# Altium footprint library AeroXo_Components.PcbLib: 13 footprints
Each footprint in its own frame and in the unit in brackets; x right, y up, seen from the top. Pads: shape width x height; smd on the part's side, far side on the other; paste and mask are expansions set on the pad; w line width, h text height; cw(c..) or ccw(c..) is an arc to the next point about the centre after c.
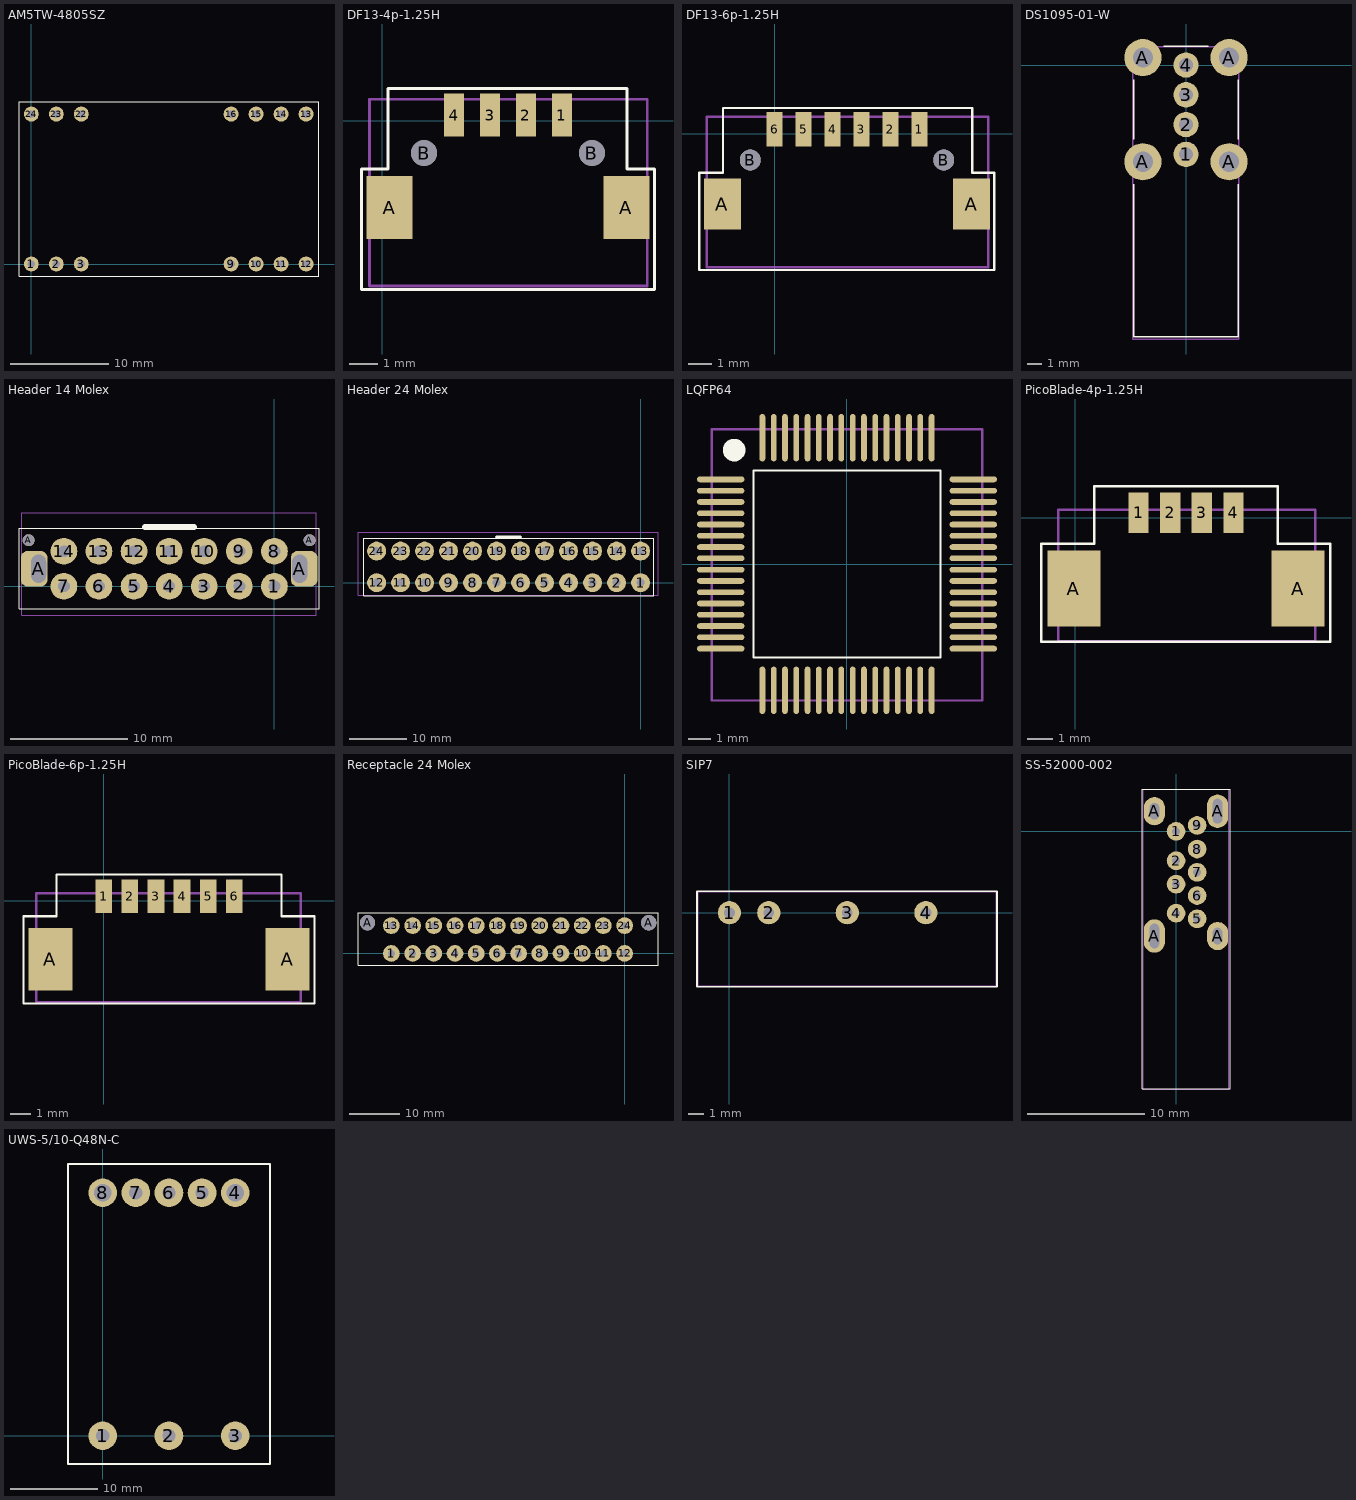
[diagram p0: the footprints below, top view; thin cyan lines are the x and y axes]

## AM5TW-4805SZ [mil]
pads (14):
  round 60 hole 30: 1(0,0) 2(100,0) 3(200,0) 9(800,0) 10(900,0) 11(1000,0) 12(1100,0) 13(1100,600) 14(1000,600) 15(900,600) 16(800,600) 22(200,600) 23(100,600) 24(0,600)
Top Overlay:
  lines w4: -49.21,-49.21 1151.57,-49.21 1151.57,649.61 -49.21,649.61 -49.21,-49.21

## DF13-4p-1.25H [mm]
pads (8):
  rect 0.7x1.5 smd: 1(6.25,0.2) 2(5,0.2) 3(3.75,0.2) 4(2.5,0.2)
  rect 1.6x2.2 smd: A(0.25,-3.025) A(8.5,-3.025)
  round 0.9 hole 0.9: B(1.45,-1.125) B(7.3,-1.125)
Top Overlay:
  lines w0.1: 8.525,-5.875 9.475,-5.875 9.475,-1.675 8.525,-1.675 8.525,1.125 0.2,1.125 0.2,-1.675 -0.725,-1.675 -0.725,-5.875 8.775,-5.875
Mechanical 13:
  lines w0.1: -0.45,-5.75 9.225,-5.75 9.225,0.75 -0.45,0.75 -0.45,-5.75
3D body "DF13-4P-1.25H.stp": height 3.83, standoff -0.57, extent -0.45,-5.725 9.2,0.775

## DF13-6p-1.25H [mm]
pads (10):
  rect 0.7x1.5 smd: 1(6.25,0.2) 2(5,0.2) 3(3.75,0.2) 4(2.5,0.2) 5(1.25,0.2) 6(0,0.2)
  rect 1.6x2.2 smd: A(-2.25,-3.025) A(8.5,-3.025)
  round 0.9 hole 0.9: B(-1.05,-1.125) B(7.3,-1.125)
Top Overlay:
  lines w0.1: -3.25,-5.875 -3.25,-1.675 -2.225,-1.675 -2.225,1.125 8.525,1.125 8.525,-1.675 9.475,-1.675 9.475,-5.875 8.525,-5.875 -2.225,-5.875 -3.25,-5.875
Mechanical 13:
  lines w0.1: -2.925,-5.75 9.225,-5.75 9.225,0.75 -2.925,0.75 -2.925,-5.75
3D body "DF13-6P-1.25H.stp": height 3.58, standoff -0.82, extent -2.925,-5.75 9.225,0.75

## DS1095-01-W [mm]
pads (8):
  round 1.7 hole 0.92: 1(0,-6) 2(0,-4) 3(0,-2) 4(0,0)
  round 2.5 hole 1.35: A(-2.9,-6.5) A(-2.9,0.5) A(2.9,-6.5) A(2.9,0.5)
Top Overlay:
  lines w0.1: -3.5,-8 -3.5,-18.25 3.5,-18.25 3.5,-8 ; -3.5,-5 -3.5,-1 ; -1.5,1.25 1.5,1.25 ; 3.5,-5 3.5,-1
Mechanical 13:
  lines w0.1: -3.581,-18.415 -3.581,1.245 3.543,1.245 3.543,-18.415 -3.581,-18.415
3D body "39m4083_292336-1.stp": height 14.87, standoff -3.24, extent -3.581,-18.415 3.543,1.245

## Header 14 Molex [mil]
pads (18):
  round 90 hole 40: 1(0,0) 2(-118,0) 3(-236,0) 4(-354,0) 5(-472,0) 6(-590,0) 7(-708,0) 8(0,118) 9(-118,118) 10(-236,118) 11(-354,118) 12(-472,118) 13(-590,118) 14(-708,118)
  round 40 hole 40: A(-826.5,155) A(118.5,155)
  rrect50% 90x120 hole 95 slot 50 at 0 deg copper offset -15,0: A(-793,59)
  rrect50% 90x120 hole 95 slot 50 at 0 deg copper offset 15,0: A(85,59)
Top Overlay:
  lines w3.94: -859,-75 -859,195 150,195 150,-75 -859,-75
  lines w20: -435,200 -270,200
Mechanical 13:
  lines w3.94: -850,-98 140,-98 140,248 -850,248 -850,-98
3D body "430451426.stp": height 394.88, standoff -120.47, extent -850.16,-97.64 140,247.64

## Header 24 Molex [mil]
pads (24):
  round 130 hole 55: 1(0,0) 2(-165,0) 3(-330,0) 4(-495,0) 5(-660,0) 6(-825,0) 7(-990,0) 8(-1155,0) 9(-1320,0) 10(-1485,0) 11(-1650,0) 12(-1815,0) 13(0,217) 14(-165,217) 15(-330,217) 16(-495,217) 17(-660,217) 18(-825,217) 19(-990,217) 20(-1155,217) 21(-1320,217) 22(-1485,217) 23(-1650,217) 24(-1815,217)
Top Overlay:
  lines w3.94: -1905,-90 -1905,305 90,305 90,-90 -813,-90 -1905,-90
  lines w20: -990,315 -825,315
Mechanical 13:
  lines w4: -1943,-86.54 120,-86.54 120,346.53 -1943,346.53 -1943,-86.54
3D body "039288240.stp": height 503.94, standoff -137.8, extent -1943,-86.54 120,346.53

## LQFP64 [mm]
pads (64):
  oval 2.1x0.254 smd paste+0 mask+0.02: 1(-5.6,3.75) 2(-5.6,3.25) 3(-5.6,2.75) 4(-5.6,2.25) 5(-5.6,1.75) 6(-5.6,1.25) 7(-5.6,0.75) 8(-5.6,0.25) 9(-5.6,-0.25) 10(-5.6,-0.75) 11(-5.6,-1.25) 12(-5.6,-1.75) 13(-5.6,-2.25) 14(-5.6,-2.75) 15(-5.6,-3.25) 16(-5.6,-3.75) 33(5.6,-3.75) 34(5.6,-3.25) 35(5.6,-2.75) 36(5.6,-2.25) 37(5.6,-1.75) 38(5.6,-1.25) 39(5.6,-0.75) 40(5.6,-0.25) 41(5.6,0.25) 42(5.6,0.75) 43(5.6,1.25) 44(5.6,1.75) 45(5.6,2.25) 46(5.6,2.75) 47(5.6,3.25) 48(5.6,3.75)
  oval 0.254x2.1 smd paste+0 mask+0.02: 17(-3.75,-5.6) 18(-3.25,-5.6) 19(-2.75,-5.6) 20(-2.25,-5.6) 21(-1.75,-5.6) 22(-1.25,-5.6) 23(-0.75,-5.6) 24(-0.25,-5.6) 25(0.25,-5.6) 26(0.75,-5.6) 27(1.25,-5.6) 28(1.75,-5.6) 29(2.25,-5.6) 30(2.75,-5.6) 31(3.25,-5.6) 32(3.75,-5.6) 49(3.75,5.6) 50(3.25,5.6) 51(2.75,5.6) 52(2.25,5.6) 53(1.75,5.6) 54(1.25,5.6) 55(0.75,5.6) 56(0.25,5.6) 57(-0.25,5.6) 58(-0.75,5.6) 59(-1.25,5.6) 60(-1.75,5.6) 61(-2.25,5.6) 62(-2.75,5.6) 63(-3.25,5.6) 64(-3.75,5.6)
Top Overlay:
  circle w0.6: c-5,5.05 r0.2
  lines w0.1: -4.15,-4.15 -4.15,4.15 4.15,4.15 4.15,-4.15 -4.15,-4.15
Mechanical 13:
  lines w0.1: -6,-6.05 -6,5.975 6,5.975 6,-6.05 -6,-6.05
3D body "User Library-LQFP64-1.step": height 1.56, standoff 0, extent -6,-6.025 6,5.975

## PicoBlade-4p-1.25H [mm]
pads (6):
  rect 0.8x1.6 smd: 1(2.5,0.2) 2(3.75,0.2) 3(5,0.2) 4(6.25,0.2)
  rect 2.1x3 smd: A(-0.05,-2.8) A(8.8,-2.8)
Top Overlay:
  lines w0.1: 8.525,-4.9 10.075,-4.9 10.075,-1.025 8,-1.025 8,1.25 0.75,1.25 0.75,-1.025 -1.35,-1.025 -1.35,-4.9 8.775,-4.9
Mechanical 13:
  lines w0.1: -0.675,-4.875 9.475,-4.875 9.475,0.325 -0.675,0.325 -0.675,-4.875
3D body "532610471.stp": height 3.4, standoff 0, extent -0.675,-4.875 9.475,0.325

## PicoBlade-6p-1.25H [mm]
pads (8):
  rect 0.8x1.6 smd: 1(0,0.2) 2(1.25,0.2) 3(2.5,0.2) 4(3.75,0.2) 5(5,0.2) 6(6.25,0.2)
  rect 2.1x3 smd: A(-2.55,-2.8) A(8.8,-2.8)
Top Overlay:
  lines w0.1: -3.825,-4.925 8.5,-4.925 10.075,-4.925 10.075,-0.75 8.5,-0.75 8.5,1.25 -2.25,1.25 -2.25,-0.75 -3.825,-0.75 -3.825,-4.925
Mechanical 13:
  lines w0.1: -3.225,-4.85 -3.225,0.35 9.425,0.35 9.425,-4.85 -3.225,-4.85
3D body "532610671.stp": height 3.4, standoff 0, extent -3.225,-4.85 9.425,0.35

## Receptacle 24 Molex [mil]
pads (26):
  round 130 hole 55: 1(-1815,0) 2(-1650,0) 3(-1485,0) 4(-1320,0) 5(-1155,0) 6(-990,0) 7(-825,0) 8(-660,0) 9(-495,0) 10(-330,0) 11(-165,0) 12(0,0) 13(-1815,217) 14(-1650,217) 15(-1485,217) 16(-1320,217) 17(-1155,217) 18(-990,217) 19(-825,217) 20(-660,217) 21(-495,217) 22(-330,217) 23(-165,217) 24(0,217)
  round 118 hole 118: A(-2001,239) A(188,239)
Top Overlay:
  lines w3.94: -2075,-90 -2075,315 260,315 260,-90 -813,-90 -2075,-90

## SIP7 [mm]
pads (4):
  round 1.5 hole 0.7: 1(0,0) 2(2.54,0) 3(7.62,0) 4(12.7,0)
Top Overlay:
  lines w0.1: -2.1,-4.8 -2.1,1.4 17.3,1.4 17.3,-4.8 -2.1,-4.8
Mechanical 13:
  lines w0.1: -2.05,-4.75 17.25,-4.75 17.25,1.35 -2.05,1.35 -2.05,-4.75
3D body "User Library-SIP-4(7)_A6.step": height 10.16, standoff -2.25, extent -2.05,-4.745 17.25,1.345

## SS-52000-002 [mil]
pads (13):
  round 62.99 hole 27.6: 1(0,0) 2(0,-99) 3(0,-178) 4(0,-276) 5(71,-295) 6(71,-216.5) 7(71,-138) 8(71,-59.5) 9(71,20)
  oval 71.5x112.7 hole 82.7 slot 31.5 at 0 deg: A(-73,-353) A(140,68)
  oval 71.5x95.1 hole 55.1 slot 31.5 at 0 deg: A(-73,68) A(140,-353)
Top Overlay:
  lines w3.94: -114,-868 -114,142 182,142 182,-868 -114,-868
Mechanical 13:
  lines w3.94: -111,-868.91 -111,142.92 177.19,142.92 177.19,-868.91 -111,-868.91
3D body "usb_3_a_90_v.stp": height 569.29, standoff -147.64, extent -111,-868.91 177.19,142.92

## UWS-5/10-Q48N-C [mil]
pads (8):
  round 130 hole 60: 1(0,0) 2(300,0) 3(600,0) 5(450,1100) 6(300,1100) 7(150,1100)
  round 130 hole 80: 4(600,1100) 8(0,1100)
Top Overlay:
  lines w10: -157.48,-127.95 -157.48,1230.32 757.87,1230.32 757.87,-127.95 -157.48,-127.95